# Altium footprint library 2.12-QFP封装.PcbLib: 39 footprints (part 2 of 3)
Each footprint in its own frame and in the unit in brackets; x right, y up, seen from the top. Pads: shape width x height; smd on the part's side, far side on the other; paste and mask are expansions set on the pad; w line width, h text height; cw(c..) or ccw(c..) is an arc to the next point about the centre after c.
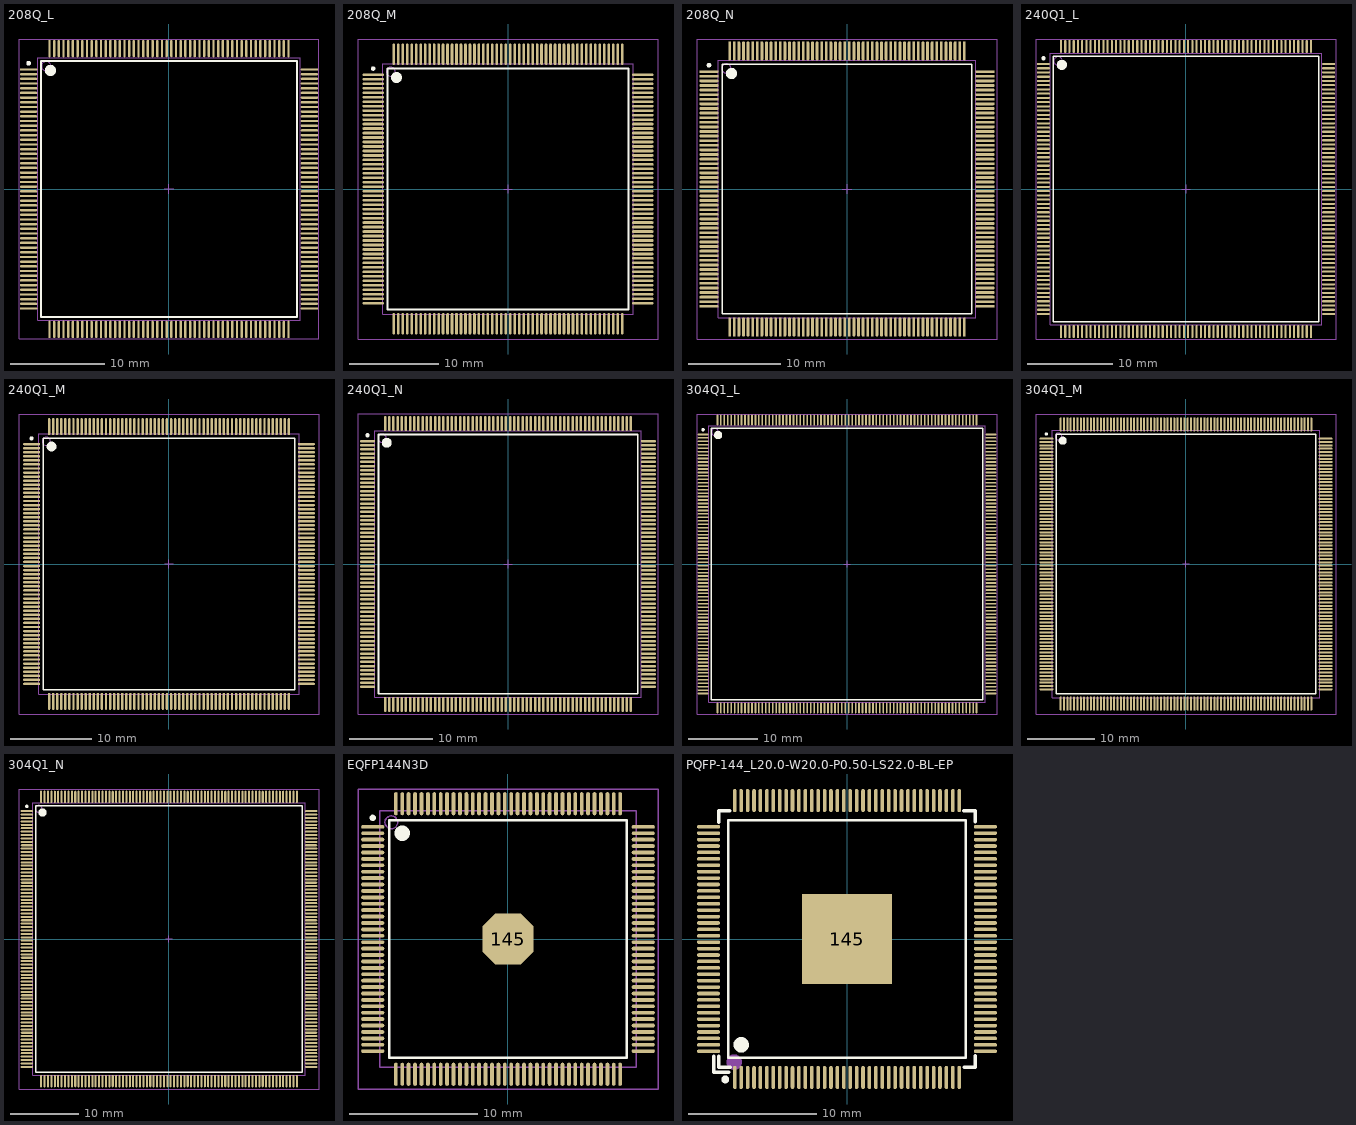
[diagram p1: the footprints below, top view; thin cyan lines are the x and y axes]

## 208Q_L [mm] "208-Pin Plastic Gull Wing Quad Flat Package (PQFP), IPC High Density"
height 3.97
pads (208):
  oval 1.85x0.25 smd: 1(-14.975,12.75) 2(-14.975,12.25) 3(-14.975,11.75) 4(-14.975,11.25) 5(-14.975,10.75) 6(-14.975,10.25) 7(-14.975,9.75) 8(-14.975,9.25) 9(-14.975,8.75) 10(-14.975,8.25) 11(-14.975,7.75) 12(-14.975,7.25) 13(-14.975,6.75) 14(-14.975,6.25) 15(-14.975,5.75) 16(-14.975,5.25) 17(-14.975,4.75) 18(-14.975,4.25) 19(-14.975,3.75) 20(-14.975,3.25) 21(-14.975,2.75) 22(-14.975,2.25) 23(-14.975,1.75) 24(-14.975,1.25) 25(-14.975,0.75) 26(-14.975,0.25) 27(-14.975,-0.25) 28(-14.975,-0.75) 29(-14.975,-1.25) 30(-14.975,-1.75) 31(-14.975,-2.25) 32(-14.975,-2.75) 33(-14.975,-3.25) 34(-14.975,-3.75) 35(-14.975,-4.25) 36(-14.975,-4.75) 37(-14.975,-5.25) 38(-14.975,-5.75) 39(-14.975,-6.25) 40(-14.975,-6.75) 41(-14.975,-7.25) 42(-14.975,-7.75) 43(-14.975,-8.25) 44(-14.975,-8.75) 45(-14.975,-9.25) 46(-14.975,-9.75) 47(-14.975,-10.25) 48(-14.975,-10.75) 49(-14.975,-11.25) 50(-14.975,-11.75) 51(-14.975,-12.25) 52(-14.975,-12.75) 105(14.975,-12.75) 106(14.975,-12.25) 107(14.975,-11.75) 108(14.975,-11.25) 109(14.975,-10.75) 110(14.975,-10.25) 111(14.975,-9.75) 112(14.975,-9.25) 113(14.975,-8.75) 114(14.975,-8.25) 115(14.975,-7.75) 116(14.975,-7.25) 117(14.975,-6.75) 118(14.975,-6.25) 119(14.975,-5.75) 120(14.975,-5.25) 121(14.975,-4.75) 122(14.975,-4.25) 123(14.975,-3.75) 124(14.975,-3.25) 125(14.975,-2.75) 126(14.975,-2.25) 127(14.975,-1.75) 128(14.975,-1.25) 129(14.975,-0.75) 130(14.975,-0.25) 131(14.975,0.25) 132(14.975,0.75) 133(14.975,1.25) 134(14.975,1.75) 135(14.975,2.25) 136(14.975,2.75) 137(14.975,3.25) 138(14.975,3.75) 139(14.975,4.25) 140(14.975,4.75) 141(14.975,5.25) 142(14.975,5.75) 143(14.975,6.25) 144(14.975,6.75) 145(14.975,7.25) 146(14.975,7.75) 147(14.975,8.25) 148(14.975,8.75) 149(14.975,9.25) 150(14.975,9.75) 151(14.975,10.25) 152(14.975,10.75) 153(14.975,11.25) 154(14.975,11.75) 155(14.975,12.25) 156(14.975,12.75)
  oval 0.25x1.85 smd: 53(-12.75,-14.975) 54(-12.25,-14.975) 55(-11.75,-14.975) 56(-11.25,-14.975) 57(-10.75,-14.975) 58(-10.25,-14.975) 59(-9.75,-14.975) 60(-9.25,-14.975) 61(-8.75,-14.975) 62(-8.25,-14.975) 63(-7.75,-14.975) 64(-7.25,-14.975) 65(-6.75,-14.975) 66(-6.25,-14.975) 67(-5.75,-14.975) 68(-5.25,-14.975) 69(-4.75,-14.975) 70(-4.25,-14.975) 71(-3.75,-14.975) 72(-3.25,-14.975) 73(-2.75,-14.975) 74(-2.25,-14.975) 75(-1.75,-14.975) 76(-1.25,-14.975) 77(-0.75,-14.975) 78(-0.25,-14.975) 79(0.25,-14.975) 80(0.75,-14.975) 81(1.25,-14.975) 82(1.75,-14.975) 83(2.25,-14.975) 84(2.75,-14.975) 85(3.25,-14.975) 86(3.75,-14.975) 87(4.25,-14.975) 88(4.75,-14.975) 89(5.25,-14.975) 90(5.75,-14.975) 91(6.25,-14.975) 92(6.75,-14.975) 93(7.25,-14.975) 94(7.75,-14.975) 95(8.25,-14.975) 96(8.75,-14.975) 97(9.25,-14.975) 98(9.75,-14.975) 99(10.25,-14.975) 100(10.75,-14.975) 101(11.25,-14.975) 102(11.75,-14.975) 103(12.25,-14.975) 104(12.75,-14.975) 157(12.75,14.975) 158(12.25,14.975) 159(11.75,14.975) 160(11.25,14.975) 161(10.75,14.975) 162(10.25,14.975) 163(9.75,14.975) 164(9.25,14.975) 165(8.75,14.975) 166(8.25,14.975) 167(7.75,14.975) 168(7.25,14.975) 169(6.75,14.975) 170(6.25,14.975) 171(5.75,14.975) 172(5.25,14.975) 173(4.75,14.975) 174(4.25,14.975) 175(3.75,14.975) 176(3.25,14.975) 177(2.75,14.975) 178(2.25,14.975) 179(1.75,14.975) 180(1.25,14.975) 181(0.75,14.975) 182(0.25,14.975) 183(-0.25,14.975) 184(-0.75,14.975) 185(-1.25,14.975) 186(-1.75,14.975) 187(-2.25,14.975) 188(-2.75,14.975) 189(-3.25,14.975) 190(-3.75,14.975) 191(-4.25,14.975) 192(-4.75,14.975) 193(-5.25,14.975) 194(-5.75,14.975) 195(-6.25,14.975) 196(-6.75,14.975) 197(-7.25,14.975) 198(-7.75,14.975) 199(-8.25,14.975) 200(-8.75,14.975) 201(-9.25,14.975) 202(-9.75,14.975) 203(-10.25,14.975) 204(-10.75,14.975) 205(-11.25,14.975) 206(-11.75,14.975) 207(-12.25,14.975) 208(-12.75,14.975)
Top Overlay:
  circle w0.25: c-14.975,13.425 r0.125
  circle w0.6: c-12.65,12.65 r0.3
  lines w0.2: -13.65,-13.65 -13.65,13.65 13.65,13.65 13.65,-13.65 -13.65,-13.65
Mechanical 13:
  circle w0.1: c-13.1,13.1 r0.5
  lines w0.1: -14,-14 -14,14 14,14 14,-14 -14,-14
Mechanical 15:
  lines w0.1: -0.5,0 0.5,0 ; 0,-0.5 0,0.5 ; -16,-16 -16,16 16,16 16,-16 -16,-16
3D body: height 3.97, standoff 0, extent -14,-14 14,14

## 208Q_M [mm] "208-Pin Plastic Gull Wing Quad Flat Package (PQFP), IPC Low Density"
height 3.97
pads (208):
  oval 2.4x0.3 smd: 1(-15.05,12.75) 2(-15.05,12.25) 3(-15.05,11.75) 4(-15.05,11.25) 5(-15.05,10.75) 6(-15.05,10.25) 7(-15.05,9.75) 8(-15.05,9.25) 9(-15.05,8.75) 10(-15.05,8.25) 11(-15.05,7.75) 12(-15.05,7.25) 13(-15.05,6.75) 14(-15.05,6.25) 15(-15.05,5.75) 16(-15.05,5.25) 17(-15.05,4.75) 18(-15.05,4.25) 19(-15.05,3.75) 20(-15.05,3.25) 21(-15.05,2.75) 22(-15.05,2.25) 23(-15.05,1.75) 24(-15.05,1.25) 25(-15.05,0.75) 26(-15.05,0.25) 27(-15.05,-0.25) 28(-15.05,-0.75) 29(-15.05,-1.25) 30(-15.05,-1.75) 31(-15.05,-2.25) 32(-15.05,-2.75) 33(-15.05,-3.25) 34(-15.05,-3.75) 35(-15.05,-4.25) 36(-15.05,-4.75) 37(-15.05,-5.25) 38(-15.05,-5.75) 39(-15.05,-6.25) 40(-15.05,-6.75) 41(-15.05,-7.25) 42(-15.05,-7.75) 43(-15.05,-8.25) 44(-15.05,-8.75) 45(-15.05,-9.25) 46(-15.05,-9.75) 47(-15.05,-10.25) 48(-15.05,-10.75) 49(-15.05,-11.25) 50(-15.05,-11.75) 51(-15.05,-12.25) 52(-15.05,-12.75) 105(15.05,-12.75) 106(15.05,-12.25) 107(15.05,-11.75) 108(15.05,-11.25) 109(15.05,-10.75) 110(15.05,-10.25) 111(15.05,-9.75) 112(15.05,-9.25) 113(15.05,-8.75) 114(15.05,-8.25) 115(15.05,-7.75) 116(15.05,-7.25) 117(15.05,-6.75) 118(15.05,-6.25) 119(15.05,-5.75) 120(15.05,-5.25) 121(15.05,-4.75) 122(15.05,-4.25) 123(15.05,-3.75) 124(15.05,-3.25) 125(15.05,-2.75) 126(15.05,-2.25) 127(15.05,-1.75) 128(15.05,-1.25) 129(15.05,-0.75) 130(15.05,-0.25) 131(15.05,0.25) 132(15.05,0.75) 133(15.05,1.25) 134(15.05,1.75) 135(15.05,2.25) 136(15.05,2.75) 137(15.05,3.25) 138(15.05,3.75) 139(15.05,4.25) 140(15.05,4.75) 141(15.05,5.25) 142(15.05,5.75) 143(15.05,6.25) 144(15.05,6.75) 145(15.05,7.25) 146(15.05,7.75) 147(15.05,8.25) 148(15.05,8.75) 149(15.05,9.25) 150(15.05,9.75) 151(15.05,10.25) 152(15.05,10.75) 153(15.05,11.25) 154(15.05,11.75) 155(15.05,12.25) 156(15.05,12.75)
  oval 0.3x2.4 smd: 53(-12.75,-15.05) 54(-12.25,-15.05) 55(-11.75,-15.05) 56(-11.25,-15.05) 57(-10.75,-15.05) 58(-10.25,-15.05) 59(-9.75,-15.05) 60(-9.25,-15.05) 61(-8.75,-15.05) 62(-8.25,-15.05) 63(-7.75,-15.05) 64(-7.25,-15.05) 65(-6.75,-15.05) 66(-6.25,-15.05) 67(-5.75,-15.05) 68(-5.25,-15.05) 69(-4.75,-15.05) 70(-4.25,-15.05) 71(-3.75,-15.05) 72(-3.25,-15.05) 73(-2.75,-15.05) 74(-2.25,-15.05) 75(-1.75,-15.05) 76(-1.25,-15.05) 77(-0.75,-15.05) 78(-0.25,-15.05) 79(0.25,-15.05) 80(0.75,-15.05) 81(1.25,-15.05) 82(1.75,-15.05) 83(2.25,-15.05) 84(2.75,-15.05) 85(3.25,-15.05) 86(3.75,-15.05) 87(4.25,-15.05) 88(4.75,-15.05) 89(5.25,-15.05) 90(5.75,-15.05) 91(6.25,-15.05) 92(6.75,-15.05) 93(7.25,-15.05) 94(7.75,-15.05) 95(8.25,-15.05) 96(8.75,-15.05) 97(9.25,-15.05) 98(9.75,-15.05) 99(10.25,-15.05) 100(10.75,-15.05) 101(11.25,-15.05) 102(11.75,-15.05) 103(12.25,-15.05) 104(12.75,-15.05) 157(12.75,15.05) 158(12.25,15.05) 159(11.75,15.05) 160(11.25,15.05) 161(10.75,15.05) 162(10.25,15.05) 163(9.75,15.05) 164(9.25,15.05) 165(8.75,15.05) 166(8.25,15.05) 167(7.75,15.05) 168(7.25,15.05) 169(6.75,15.05) 170(6.25,15.05) 171(5.75,15.05) 172(5.25,15.05) 173(4.75,15.05) 174(4.25,15.05) 175(3.75,15.05) 176(3.25,15.05) 177(2.75,15.05) 178(2.25,15.05) 179(1.75,15.05) 180(1.25,15.05) 181(0.75,15.05) 182(0.25,15.05) 183(-0.25,15.05) 184(-0.75,15.05) 185(-1.25,15.05) 186(-1.75,15.05) 187(-2.25,15.05) 188(-2.75,15.05) 189(-3.25,15.05) 190(-3.75,15.05) 191(-4.25,15.05) 192(-4.75,15.05) 193(-5.25,15.05) 194(-5.75,15.05) 195(-6.25,15.05) 196(-6.75,15.05) 197(-7.25,15.05) 198(-7.75,15.05) 199(-8.25,15.05) 200(-8.75,15.05) 201(-9.25,15.05) 202(-9.75,15.05) 203(-10.25,15.05) 204(-10.75,15.05) 205(-11.25,15.05) 206(-11.75,15.05) 207(-12.25,15.05) 208(-12.75,15.05)
Top Overlay:
  circle w0.6: c-12.45,12.45 r0.3
  circle w0.25: c-15.05,13.45 r0.125
  lines w0.2: -13.45,-13.45 13.45,-13.45 13.45,13.45 -13.45,13.45 -13.45,-13.45
Mechanical 13:
  circle w0.1: c-13.1,13.1 r0.5
  lines w0.1: -14,-14 14,-14 14,14 -14,14 -14,-14
Mechanical 15:
  lines w0.1: -0.5,0 0.5,0 ; 0,-0.5 0,0.5 ; -16.75,-16.75 16.75,-16.75 16.75,16.75 -16.75,16.75 -16.75,-16.75
3D body: height 3.97, standoff 0, extent -14,-14 14,14

## 208Q_N [mm] "208-Pin Plastic Gull Wing Quad Flat Package (PQFP), IPC Medium Density"
height 3.97
pads (208):
  oval 2.1x0.3 smd: 1(-15,12.75) 2(-15,12.25) 3(-15,11.75) 4(-15,11.25) 5(-15,10.75) 6(-15,10.25) 7(-15,9.75) 8(-15,9.25) 9(-15,8.75) 10(-15,8.25) 11(-15,7.75) 12(-15,7.25) 13(-15,6.75) 14(-15,6.25) 15(-15,5.75) 16(-15,5.25) 17(-15,4.75) 18(-15,4.25) 19(-15,3.75) 20(-15,3.25) 21(-15,2.75) 22(-15,2.25) 23(-15,1.75) 24(-15,1.25) 25(-15,0.75) 26(-15,0.25) 27(-15,-0.25) 28(-15,-0.75) 29(-15,-1.25) 30(-15,-1.75) 31(-15,-2.25) 32(-15,-2.75) 33(-15,-3.25) 34(-15,-3.75) 35(-15,-4.25) 36(-15,-4.75) 37(-15,-5.25) 38(-15,-5.75) 39(-15,-6.25) 40(-15,-6.75) 41(-15,-7.25) 42(-15,-7.75) 43(-15,-8.25) 44(-15,-8.75) 45(-15,-9.25) 46(-15,-9.75) 47(-15,-10.25) 48(-15,-10.75) 49(-15,-11.25) 50(-15,-11.75) 51(-15,-12.25) 52(-15,-12.75) 105(15,-12.75) 106(15,-12.25) 107(15,-11.75) 108(15,-11.25) 109(15,-10.75) 110(15,-10.25) 111(15,-9.75) 112(15,-9.25) 113(15,-8.75) 114(15,-8.25) 115(15,-7.75) 116(15,-7.25) 117(15,-6.75) 118(15,-6.25) 119(15,-5.75) 120(15,-5.25) 121(15,-4.75) 122(15,-4.25) 123(15,-3.75) 124(15,-3.25) 125(15,-2.75) 126(15,-2.25) 127(15,-1.75) 128(15,-1.25) 129(15,-0.75) 130(15,-0.25) 131(15,0.25) 132(15,0.75) 133(15,1.25) 134(15,1.75) 135(15,2.25) 136(15,2.75) 137(15,3.25) 138(15,3.75) 139(15,4.25) 140(15,4.75) 141(15,5.25) 142(15,5.75) 143(15,6.25) 144(15,6.75) 145(15,7.25) 146(15,7.75) 147(15,8.25) 148(15,8.75) 149(15,9.25) 150(15,9.75) 151(15,10.25) 152(15,10.75) 153(15,11.25) 154(15,11.75) 155(15,12.25) 156(15,12.75)
  oval 0.3x2.1 smd: 53(-12.75,-15) 54(-12.25,-15) 55(-11.75,-15) 56(-11.25,-15) 57(-10.75,-15) 58(-10.25,-15) 59(-9.75,-15) 60(-9.25,-15) 61(-8.75,-15) 62(-8.25,-15) 63(-7.75,-15) 64(-7.25,-15) 65(-6.75,-15) 66(-6.25,-15) 67(-5.75,-15) 68(-5.25,-15) 69(-4.75,-15) 70(-4.25,-15) 71(-3.75,-15) 72(-3.25,-15) 73(-2.75,-15) 74(-2.25,-15) 75(-1.75,-15) 76(-1.25,-15) 77(-0.75,-15) 78(-0.25,-15) 79(0.25,-15) 80(0.75,-15) 81(1.25,-15) 82(1.75,-15) 83(2.25,-15) 84(2.75,-15) 85(3.25,-15) 86(3.75,-15) 87(4.25,-15) 88(4.75,-15) 89(5.25,-15) 90(5.75,-15) 91(6.25,-15) 92(6.75,-15) 93(7.25,-15) 94(7.75,-15) 95(8.25,-15) 96(8.75,-15) 97(9.25,-15) 98(9.75,-15) 99(10.25,-15) 100(10.75,-15) 101(11.25,-15) 102(11.75,-15) 103(12.25,-15) 104(12.75,-15) 157(12.75,15) 158(12.25,15) 159(11.75,15) 160(11.25,15) 161(10.75,15) 162(10.25,15) 163(9.75,15) 164(9.25,15) 165(8.75,15) 166(8.25,15) 167(7.75,15) 168(7.25,15) 169(6.75,15) 170(6.25,15) 171(5.75,15) 172(5.25,15) 173(4.75,15) 174(4.25,15) 175(3.75,15) 176(3.25,15) 177(2.75,15) 178(2.25,15) 179(1.75,15) 180(1.25,15) 181(0.75,15) 182(0.25,15) 183(-0.25,15) 184(-0.75,15) 185(-1.25,15) 186(-1.75,15) 187(-2.25,15) 188(-2.75,15) 189(-3.25,15) 190(-3.75,15) 191(-4.25,15) 192(-4.75,15) 193(-5.25,15) 194(-5.75,15) 195(-6.25,15) 196(-6.75,15) 197(-7.25,15) 198(-7.75,15) 199(-8.25,15) 200(-8.75,15) 201(-9.25,15) 202(-9.75,15) 203(-10.25,15) 204(-10.75,15) 205(-11.25,15) 206(-11.75,15) 207(-12.25,15) 208(-12.75,15)
Top Overlay:
  circle w0.6: c-12.55,12.55 r0.3
  circle w0.25: c-15,13.45 r0.125
  lines w0.2: -13.55,-13.55 13.55,-13.55 13.55,13.55 -13.55,13.55 -13.55,-13.55
Mechanical 13:
  circle w0.1: c-13.1,13.1 r0.5
  lines w0.1: -14,-14 14,-14 14,14 -14,14 -14,-14
Mechanical 15:
  lines w0.1: -0.5,0 0.5,0 ; 0,-0.5 0,0.5 ; -16.3,-16.3 16.3,-16.3 16.3,16.3 -16.3,16.3 -16.3,-16.3
3D body: height 3.97, standoff 0, extent -14,-14 14,14

## 240Q1_L [mm] "240-Pin Shrink Quad Flat Pack 0.5 mm Pitch, IPC High Density"
height 3.6
pads (240):
  oval 1.55x0.25 smd: 1(-16.825,14.75) 2(-16.825,14.25) 3(-16.825,13.75) 4(-16.825,13.25) 5(-16.825,12.75) 6(-16.825,12.25) 7(-16.825,11.75) 8(-16.825,11.25) 9(-16.825,10.75) 10(-16.825,10.25) 11(-16.825,9.75) 12(-16.825,9.25) 13(-16.825,8.75) 14(-16.825,8.25) 15(-16.825,7.75) 16(-16.825,7.25) 17(-16.825,6.75) 18(-16.825,6.25) 19(-16.825,5.75) 20(-16.825,5.25) 21(-16.825,4.75) 22(-16.825,4.25) 23(-16.825,3.75) 24(-16.825,3.25) 25(-16.825,2.75) 26(-16.825,2.25) 27(-16.825,1.75) 28(-16.825,1.25) 29(-16.825,0.75) 30(-16.825,0.25) 31(-16.825,-0.25) 32(-16.825,-0.75) 33(-16.825,-1.25) 34(-16.825,-1.75) 35(-16.825,-2.25) 36(-16.825,-2.75) 37(-16.825,-3.25) 38(-16.825,-3.75) 39(-16.825,-4.25) 40(-16.825,-4.75) 41(-16.825,-5.25) 42(-16.825,-5.75) 43(-16.825,-6.25) 44(-16.825,-6.75) 45(-16.825,-7.25) 46(-16.825,-7.75) 47(-16.825,-8.25) 48(-16.825,-8.75) 49(-16.825,-9.25) 50(-16.825,-9.75) 51(-16.825,-10.25) 52(-16.825,-10.75) 53(-16.825,-11.25) 54(-16.825,-11.75) 55(-16.825,-12.25) 56(-16.825,-12.75) 57(-16.825,-13.25) 58(-16.825,-13.75) 59(-16.825,-14.25) 60(-16.825,-14.75) 121(16.825,-14.75) 122(16.825,-14.25) 123(16.825,-13.75) 124(16.825,-13.25) 125(16.825,-12.75) 126(16.825,-12.25) 127(16.825,-11.75) 128(16.825,-11.25) 129(16.825,-10.75) 130(16.825,-10.25) 131(16.825,-9.75) 132(16.825,-9.25) 133(16.825,-8.75) 134(16.825,-8.25) 135(16.825,-7.75) 136(16.825,-7.25) 137(16.825,-6.75) 138(16.825,-6.25) 139(16.825,-5.75) 140(16.825,-5.25) 141(16.825,-4.75) 142(16.825,-4.25) 143(16.825,-3.75) 144(16.825,-3.25) 145(16.825,-2.75) 146(16.825,-2.25) 147(16.825,-1.75) 148(16.825,-1.25) 149(16.825,-0.75) 150(16.825,-0.25) 151(16.825,0.25) 152(16.825,0.75) 153(16.825,1.25) 154(16.825,1.75) 155(16.825,2.25) 156(16.825,2.75) 157(16.825,3.25) 158(16.825,3.75) 159(16.825,4.25) 160(16.825,4.75) 161(16.825,5.25) 162(16.825,5.75) 163(16.825,6.25) 164(16.825,6.75) 165(16.825,7.25) 166(16.825,7.75) 167(16.825,8.25) 168(16.825,8.75) 169(16.825,9.25) 170(16.825,9.75) 171(16.825,10.25) 172(16.825,10.75) 173(16.825,11.25) 174(16.825,11.75) 175(16.825,12.25) 176(16.825,12.75) 177(16.825,13.25) 178(16.825,13.75) 179(16.825,14.25) 180(16.825,14.75)
  oval 0.25x1.55 smd: 61(-14.75,-16.825) 62(-14.25,-16.825) 63(-13.75,-16.825) 64(-13.25,-16.825) 65(-12.75,-16.825) 66(-12.25,-16.825) 67(-11.75,-16.825) 68(-11.25,-16.825) 69(-10.75,-16.825) 70(-10.25,-16.825) 71(-9.75,-16.825) 72(-9.25,-16.825) 73(-8.75,-16.825) 74(-8.25,-16.825) 75(-7.75,-16.825) 76(-7.25,-16.825) 77(-6.75,-16.825) 78(-6.25,-16.825) 79(-5.75,-16.825) 80(-5.25,-16.825) 81(-4.75,-16.825) 82(-4.25,-16.825) 83(-3.75,-16.825) 84(-3.25,-16.825) 85(-2.75,-16.825) 86(-2.25,-16.825) 87(-1.75,-16.825) 88(-1.25,-16.825) 89(-0.75,-16.825) 90(-0.25,-16.825) 91(0.25,-16.825) 92(0.75,-16.825) 93(1.25,-16.825) 94(1.75,-16.825) 95(2.25,-16.825) 96(2.75,-16.825) 97(3.25,-16.825) 98(3.75,-16.825) 99(4.25,-16.825) 100(4.75,-16.825) 101(5.25,-16.825) 102(5.75,-16.825) 103(6.25,-16.825) 104(6.75,-16.825) 105(7.25,-16.825) 106(7.75,-16.825) 107(8.25,-16.825) 108(8.75,-16.825) 109(9.25,-16.825) 110(9.75,-16.825) 111(10.25,-16.825) 112(10.75,-16.825) 113(11.25,-16.825) 114(11.75,-16.825) 115(12.25,-16.825) 116(12.75,-16.825) 117(13.25,-16.825) 118(13.75,-16.825) 119(14.25,-16.825) 120(14.75,-16.825) 181(14.75,16.825) 182(14.25,16.825) 183(13.75,16.825) 184(13.25,16.825) 185(12.75,16.825) 186(12.25,16.825) 187(11.75,16.825) 188(11.25,16.825) 189(10.75,16.825) 190(10.25,16.825) 191(9.75,16.825) 192(9.25,16.825) 193(8.75,16.825) 194(8.25,16.825) 195(7.75,16.825) 196(7.25,16.825) 197(6.75,16.825) 198(6.25,16.825) 199(5.75,16.825) 200(5.25,16.825) 201(4.75,16.825) 202(4.25,16.825) 203(3.75,16.825) 204(3.25,16.825) 205(2.75,16.825) 206(2.25,16.825) 207(1.75,16.825) 208(1.25,16.825) 209(0.75,16.825) 210(0.25,16.825) 211(-0.25,16.825) 212(-0.75,16.825) 213(-1.25,16.825) 214(-1.75,16.825) 215(-2.25,16.825) 216(-2.75,16.825) 217(-3.25,16.825) 218(-3.75,16.825) 219(-4.25,16.825) 220(-4.75,16.825) 221(-5.25,16.825) 222(-5.75,16.825) 223(-6.25,16.825) 224(-6.75,16.825) 225(-7.25,16.825) 226(-7.75,16.825) 227(-8.25,16.825) 228(-8.75,16.825) 229(-9.25,16.825) 230(-9.75,16.825) 231(-10.25,16.825) 232(-10.75,16.825) 233(-11.25,16.825) 234(-11.75,16.825) 235(-12.25,16.825) 236(-12.75,16.825) 237(-13.25,16.825) 238(-13.75,16.825) 239(-14.25,16.825) 240(-14.75,16.825)
Top Overlay:
  circle w0.25: c-16.825,15.425 r0.125
  circle w0.6: c-14.65,14.65 r0.3
  lines w0.2: -15.65,-15.65 -15.65,15.65 15.65,15.65 15.65,-15.65 -15.65,-15.65
Mechanical 13:
  circle w0.1: c-15.1,15.1 r0.5
  lines w0.1: -16,-16 -16,16 16,16 16,-16 -16,-16
Mechanical 15:
  lines w0.1: -0.5,0 0.5,0 ; 0,-0.5 0,0.5 ; -17.7,-17.7 -17.7,17.7 17.7,17.7 17.7,-17.7 -17.7,-17.7
3D body: height 3.6, standoff 0, extent -16,-16 16,16

## 240Q1_M [mm] "240-Pin Shrink Quad Flat Pack 0.5 mm Pitch, IPC Low Density"
height 3.6
pads (240):
  oval 2.1x0.3 smd: 1(-16.9,14.75) 2(-16.9,14.25) 3(-16.9,13.75) 4(-16.9,13.25) 5(-16.9,12.75) 6(-16.9,12.25) 7(-16.9,11.75) 8(-16.9,11.25) 9(-16.9,10.75) 10(-16.9,10.25) 11(-16.9,9.75) 12(-16.9,9.25) 13(-16.9,8.75) 14(-16.9,8.25) 15(-16.9,7.75) 16(-16.9,7.25) 17(-16.9,6.75) 18(-16.9,6.25) 19(-16.9,5.75) 20(-16.9,5.25) 21(-16.9,4.75) 22(-16.9,4.25) 23(-16.9,3.75) 24(-16.9,3.25) 25(-16.9,2.75) 26(-16.9,2.25) 27(-16.9,1.75) 28(-16.9,1.25) 29(-16.9,0.75) 30(-16.9,0.25) 31(-16.9,-0.25) 32(-16.9,-0.75) 33(-16.9,-1.25) 34(-16.9,-1.75) 35(-16.9,-2.25) 36(-16.9,-2.75) 37(-16.9,-3.25) 38(-16.9,-3.75) 39(-16.9,-4.25) 40(-16.9,-4.75) 41(-16.9,-5.25) 42(-16.9,-5.75) 43(-16.9,-6.25) 44(-16.9,-6.75) 45(-16.9,-7.25) 46(-16.9,-7.75) 47(-16.9,-8.25) 48(-16.9,-8.75) 49(-16.9,-9.25) 50(-16.9,-9.75) 51(-16.9,-10.25) 52(-16.9,-10.75) 53(-16.9,-11.25) 54(-16.9,-11.75) 55(-16.9,-12.25) 56(-16.9,-12.75) 57(-16.9,-13.25) 58(-16.9,-13.75) 59(-16.9,-14.25) 60(-16.9,-14.75) 121(16.9,-14.75) 122(16.9,-14.25) 123(16.9,-13.75) 124(16.9,-13.25) 125(16.9,-12.75) 126(16.9,-12.25) 127(16.9,-11.75) 128(16.9,-11.25) 129(16.9,-10.75) 130(16.9,-10.25) 131(16.9,-9.75) 132(16.9,-9.25) 133(16.9,-8.75) 134(16.9,-8.25) 135(16.9,-7.75) 136(16.9,-7.25) 137(16.9,-6.75) 138(16.9,-6.25) 139(16.9,-5.75) 140(16.9,-5.25) 141(16.9,-4.75) 142(16.9,-4.25) 143(16.9,-3.75) 144(16.9,-3.25) 145(16.9,-2.75) 146(16.9,-2.25) 147(16.9,-1.75) 148(16.9,-1.25) 149(16.9,-0.75) 150(16.9,-0.25) 151(16.9,0.25) 152(16.9,0.75) 153(16.9,1.25) 154(16.9,1.75) 155(16.9,2.25) 156(16.9,2.75) 157(16.9,3.25) 158(16.9,3.75) 159(16.9,4.25) 160(16.9,4.75) 161(16.9,5.25) 162(16.9,5.75) 163(16.9,6.25) 164(16.9,6.75) 165(16.9,7.25) 166(16.9,7.75) 167(16.9,8.25) 168(16.9,8.75) 169(16.9,9.25) 170(16.9,9.75) 171(16.9,10.25) 172(16.9,10.75) 173(16.9,11.25) 174(16.9,11.75) 175(16.9,12.25) 176(16.9,12.75) 177(16.9,13.25) 178(16.9,13.75) 179(16.9,14.25) 180(16.9,14.75)
  oval 0.3x2.1 smd: 61(-14.75,-16.9) 62(-14.25,-16.9) 63(-13.75,-16.9) 64(-13.25,-16.9) 65(-12.75,-16.9) 66(-12.25,-16.9) 67(-11.75,-16.9) 68(-11.25,-16.9) 69(-10.75,-16.9) 70(-10.25,-16.9) 71(-9.75,-16.9) 72(-9.25,-16.9) 73(-8.75,-16.9) 74(-8.25,-16.9) 75(-7.75,-16.9) 76(-7.25,-16.9) 77(-6.75,-16.9) 78(-6.25,-16.9) 79(-5.75,-16.9) 80(-5.25,-16.9) 81(-4.75,-16.9) 82(-4.25,-16.9) 83(-3.75,-16.9) 84(-3.25,-16.9) 85(-2.75,-16.9) 86(-2.25,-16.9) 87(-1.75,-16.9) 88(-1.25,-16.9) 89(-0.75,-16.9) 90(-0.25,-16.9) 91(0.25,-16.9) 92(0.75,-16.9) 93(1.25,-16.9) 94(1.75,-16.9) 95(2.25,-16.9) 96(2.75,-16.9) 97(3.25,-16.9) 98(3.75,-16.9) 99(4.25,-16.9) 100(4.75,-16.9) 101(5.25,-16.9) 102(5.75,-16.9) 103(6.25,-16.9) 104(6.75,-16.9) 105(7.25,-16.9) 106(7.75,-16.9) 107(8.25,-16.9) 108(8.75,-16.9) 109(9.25,-16.9) 110(9.75,-16.9) 111(10.25,-16.9) 112(10.75,-16.9) 113(11.25,-16.9) 114(11.75,-16.9) 115(12.25,-16.9) 116(12.75,-16.9) 117(13.25,-16.9) 118(13.75,-16.9) 119(14.25,-16.9) 120(14.75,-16.9) 181(14.75,16.9) 182(14.25,16.9) 183(13.75,16.9) 184(13.25,16.9) 185(12.75,16.9) 186(12.25,16.9) 187(11.75,16.9) 188(11.25,16.9) 189(10.75,16.9) 190(10.25,16.9) 191(9.75,16.9) 192(9.25,16.9) 193(8.75,16.9) 194(8.25,16.9) 195(7.75,16.9) 196(7.25,16.9) 197(6.75,16.9) 198(6.25,16.9) 199(5.75,16.9) 200(5.25,16.9) 201(4.75,16.9) 202(4.25,16.9) 203(3.75,16.9) 204(3.25,16.9) 205(2.75,16.9) 206(2.25,16.9) 207(1.75,16.9) 208(1.25,16.9) 209(0.75,16.9) 210(0.25,16.9) 211(-0.25,16.9) 212(-0.75,16.9) 213(-1.25,16.9) 214(-1.75,16.9) 215(-2.25,16.9) 216(-2.75,16.9) 217(-3.25,16.9) 218(-3.75,16.9) 219(-4.25,16.9) 220(-4.75,16.9) 221(-5.25,16.9) 222(-5.75,16.9) 223(-6.25,16.9) 224(-6.75,16.9) 225(-7.25,16.9) 226(-7.75,16.9) 227(-8.25,16.9) 228(-8.75,16.9) 229(-9.25,16.9) 230(-9.75,16.9) 231(-10.25,16.9) 232(-10.75,16.9) 233(-11.25,16.9) 234(-11.75,16.9) 235(-12.25,16.9) 236(-12.75,16.9) 237(-13.25,16.9) 238(-13.75,16.9) 239(-14.25,16.9) 240(-14.75,16.9)
Top Overlay:
  circle w0.25: c-16.9,15.45 r0.125
  circle w0.6: c-14.45,14.45 r0.3
  lines w0.2: -15.45,-15.45 -15.45,15.45 15.45,15.45 15.45,-15.45 -15.45,-15.45
Mechanical 13:
  circle w0.1: c-15.1,15.1 r0.5
  lines w0.1: -16,-16 -16,16 16,16 16,-16 -16,-16
Mechanical 15:
  lines w0.1: -0.5,0 0.5,0 ; 0,-0.5 0,0.5 ; -18.45,-18.45 -18.45,18.45 18.45,18.45 18.45,-18.45 -18.45,-18.45
3D body: height 3.6, standoff 0, extent -16,-16 16,16

## 240Q1_N [mm] "240-Pin Shrink Quad Flat Pack 0.5 mm Pitch, IPC Medium Density"
height 3.6
pads (240):
  oval 1.8x0.3 smd: 1(-16.85,14.75) 2(-16.85,14.25) 3(-16.85,13.75) 4(-16.85,13.25) 5(-16.85,12.75) 6(-16.85,12.25) 7(-16.85,11.75) 8(-16.85,11.25) 9(-16.85,10.75) 10(-16.85,10.25) 11(-16.85,9.75) 12(-16.85,9.25) 13(-16.85,8.75) 14(-16.85,8.25) 15(-16.85,7.75) 16(-16.85,7.25) 17(-16.85,6.75) 18(-16.85,6.25) 19(-16.85,5.75) 20(-16.85,5.25) 21(-16.85,4.75) 22(-16.85,4.25) 23(-16.85,3.75) 24(-16.85,3.25) 25(-16.85,2.75) 26(-16.85,2.25) 27(-16.85,1.75) 28(-16.85,1.25) 29(-16.85,0.75) 30(-16.85,0.25) 31(-16.85,-0.25) 32(-16.85,-0.75) 33(-16.85,-1.25) 34(-16.85,-1.75) 35(-16.85,-2.25) 36(-16.85,-2.75) 37(-16.85,-3.25) 38(-16.85,-3.75) 39(-16.85,-4.25) 40(-16.85,-4.75) 41(-16.85,-5.25) 42(-16.85,-5.75) 43(-16.85,-6.25) 44(-16.85,-6.75) 45(-16.85,-7.25) 46(-16.85,-7.75) 47(-16.85,-8.25) 48(-16.85,-8.75) 49(-16.85,-9.25) 50(-16.85,-9.75) 51(-16.85,-10.25) 52(-16.85,-10.75) 53(-16.85,-11.25) 54(-16.85,-11.75) 55(-16.85,-12.25) 56(-16.85,-12.75) 57(-16.85,-13.25) 58(-16.85,-13.75) 59(-16.85,-14.25) 60(-16.85,-14.75) 121(16.85,-14.75) 122(16.85,-14.25) 123(16.85,-13.75) 124(16.85,-13.25) 125(16.85,-12.75) 126(16.85,-12.25) 127(16.85,-11.75) 128(16.85,-11.25) 129(16.85,-10.75) 130(16.85,-10.25) 131(16.85,-9.75) 132(16.85,-9.25) 133(16.85,-8.75) 134(16.85,-8.25) 135(16.85,-7.75) 136(16.85,-7.25) 137(16.85,-6.75) 138(16.85,-6.25) 139(16.85,-5.75) 140(16.85,-5.25) 141(16.85,-4.75) 142(16.85,-4.25) 143(16.85,-3.75) 144(16.85,-3.25) 145(16.85,-2.75) 146(16.85,-2.25) 147(16.85,-1.75) 148(16.85,-1.25) 149(16.85,-0.75) 150(16.85,-0.25) 151(16.85,0.25) 152(16.85,0.75) 153(16.85,1.25) 154(16.85,1.75) 155(16.85,2.25) 156(16.85,2.75) 157(16.85,3.25) 158(16.85,3.75) 159(16.85,4.25) 160(16.85,4.75) 161(16.85,5.25) 162(16.85,5.75) 163(16.85,6.25) 164(16.85,6.75) 165(16.85,7.25) 166(16.85,7.75) 167(16.85,8.25) 168(16.85,8.75) 169(16.85,9.25) 170(16.85,9.75) 171(16.85,10.25) 172(16.85,10.75) 173(16.85,11.25) 174(16.85,11.75) 175(16.85,12.25) 176(16.85,12.75) 177(16.85,13.25) 178(16.85,13.75) 179(16.85,14.25) 180(16.85,14.75)
  oval 0.3x1.8 smd: 61(-14.75,-16.85) 62(-14.25,-16.85) 63(-13.75,-16.85) 64(-13.25,-16.85) 65(-12.75,-16.85) 66(-12.25,-16.85) 67(-11.75,-16.85) 68(-11.25,-16.85) 69(-10.75,-16.85) 70(-10.25,-16.85) 71(-9.75,-16.85) 72(-9.25,-16.85) 73(-8.75,-16.85) 74(-8.25,-16.85) 75(-7.75,-16.85) 76(-7.25,-16.85) 77(-6.75,-16.85) 78(-6.25,-16.85) 79(-5.75,-16.85) 80(-5.25,-16.85) 81(-4.75,-16.85) 82(-4.25,-16.85) 83(-3.75,-16.85) 84(-3.25,-16.85) 85(-2.75,-16.85) 86(-2.25,-16.85) 87(-1.75,-16.85) 88(-1.25,-16.85) 89(-0.75,-16.85) 90(-0.25,-16.85) 91(0.25,-16.85) 92(0.75,-16.85) 93(1.25,-16.85) 94(1.75,-16.85) 95(2.25,-16.85) 96(2.75,-16.85) 97(3.25,-16.85) 98(3.75,-16.85) 99(4.25,-16.85) 100(4.75,-16.85) 101(5.25,-16.85) 102(5.75,-16.85) 103(6.25,-16.85) 104(6.75,-16.85) 105(7.25,-16.85) 106(7.75,-16.85) 107(8.25,-16.85) 108(8.75,-16.85) 109(9.25,-16.85) 110(9.75,-16.85) 111(10.25,-16.85) 112(10.75,-16.85) 113(11.25,-16.85) 114(11.75,-16.85) 115(12.25,-16.85) 116(12.75,-16.85) 117(13.25,-16.85) 118(13.75,-16.85) 119(14.25,-16.85) 120(14.75,-16.85) 181(14.75,16.85) 182(14.25,16.85) 183(13.75,16.85) 184(13.25,16.85) 185(12.75,16.85) 186(12.25,16.85) 187(11.75,16.85) 188(11.25,16.85) 189(10.75,16.85) 190(10.25,16.85) 191(9.75,16.85) 192(9.25,16.85) 193(8.75,16.85) 194(8.25,16.85) 195(7.75,16.85) 196(7.25,16.85) 197(6.75,16.85) 198(6.25,16.85) 199(5.75,16.85) 200(5.25,16.85) 201(4.75,16.85) 202(4.25,16.85) 203(3.75,16.85) 204(3.25,16.85) 205(2.75,16.85) 206(2.25,16.85) 207(1.75,16.85) 208(1.25,16.85) 209(0.75,16.85) 210(0.25,16.85) 211(-0.25,16.85) 212(-0.75,16.85) 213(-1.25,16.85) 214(-1.75,16.85) 215(-2.25,16.85) 216(-2.75,16.85) 217(-3.25,16.85) 218(-3.75,16.85) 219(-4.25,16.85) 220(-4.75,16.85) 221(-5.25,16.85) 222(-5.75,16.85) 223(-6.25,16.85) 224(-6.75,16.85) 225(-7.25,16.85) 226(-7.75,16.85) 227(-8.25,16.85) 228(-8.75,16.85) 229(-9.25,16.85) 230(-9.75,16.85) 231(-10.25,16.85) 232(-10.75,16.85) 233(-11.25,16.85) 234(-11.75,16.85) 235(-12.25,16.85) 236(-12.75,16.85) 237(-13.25,16.85) 238(-13.75,16.85) 239(-14.25,16.85) 240(-14.75,16.85)
Top Overlay:
  circle w0.6: c-14.55,14.55 r0.3
  circle w0.25: c-16.85,15.45 r0.125
  lines w0.2: -15.55,-15.55 15.55,-15.55 15.55,15.55 -15.55,15.55 -15.55,-15.55
Mechanical 13:
  circle w0.1: c-15.1,15.1 r0.5
  lines w0.1: -16,-16 16,-16 16,16 -16,16 -16,-16
Mechanical 15:
  lines w0.1: -0.5,0 0.5,0 ; 0,-0.5 0,0.5 ; -18,-18 18,-18 18,18 -18,18 -18,-18
3D body: height 3.6, standoff 0, extent -16,-16 16,16

## 304Q1_L [mm] "304-Pin Shrink Quad Flat Pack 0.5 mm Pitch, IPC High Density"
height 4.05
pads (304):
  oval 1.55x0.25 smd: 1(-20.825,18.75) 2(-20.825,18.25) 3(-20.825,17.75) 4(-20.825,17.25) 5(-20.825,16.75) 6(-20.825,16.25) 7(-20.825,15.75) 8(-20.825,15.25) 9(-20.825,14.75) 10(-20.825,14.25) 11(-20.825,13.75) 12(-20.825,13.25) 13(-20.825,12.75) 14(-20.825,12.25) 15(-20.825,11.75) 16(-20.825,11.25) 17(-20.825,10.75) 18(-20.825,10.25) 19(-20.825,9.75) 20(-20.825,9.25) 21(-20.825,8.75) 22(-20.825,8.25) 23(-20.825,7.75) 24(-20.825,7.25) 25(-20.825,6.75) 26(-20.825,6.25) 27(-20.825,5.75) 28(-20.825,5.25) 29(-20.825,4.75) 30(-20.825,4.25) 31(-20.825,3.75) 32(-20.825,3.25) 33(-20.825,2.75) 34(-20.825,2.25) 35(-20.825,1.75) 36(-20.825,1.25) 37(-20.825,0.75) 38(-20.825,0.25) 39(-20.825,-0.25) 40(-20.825,-0.75) 41(-20.825,-1.25) 42(-20.825,-1.75) 43(-20.825,-2.25) 44(-20.825,-2.75) 45(-20.825,-3.25) 46(-20.825,-3.75) 47(-20.825,-4.25) 48(-20.825,-4.75) 49(-20.825,-5.25) 50(-20.825,-5.75) 51(-20.825,-6.25) 52(-20.825,-6.75) 53(-20.825,-7.25) 54(-20.825,-7.75) 55(-20.825,-8.25) 56(-20.825,-8.75) 57(-20.825,-9.25) 58(-20.825,-9.75) 59(-20.825,-10.25) 60(-20.825,-10.75) 61(-20.825,-11.25) 62(-20.825,-11.75) 63(-20.825,-12.25) 64(-20.825,-12.75) 65(-20.825,-13.25) 66(-20.825,-13.75) 67(-20.825,-14.25) 68(-20.825,-14.75) 69(-20.825,-15.25) 70(-20.825,-15.75) 71(-20.825,-16.25) 72(-20.825,-16.75) 73(-20.825,-17.25) 74(-20.825,-17.75) 75(-20.825,-18.25) 76(-20.825,-18.75) 153(20.825,-18.75) 154(20.825,-18.25) 155(20.825,-17.75) 156(20.825,-17.25) 157(20.825,-16.75) 158(20.825,-16.25) 159(20.825,-15.75) 160(20.825,-15.25) 161(20.825,-14.75) 162(20.825,-14.25) 163(20.825,-13.75) 164(20.825,-13.25) 165(20.825,-12.75) 166(20.825,-12.25) 167(20.825,-11.75) 168(20.825,-11.25) 169(20.825,-10.75) 170(20.825,-10.25) 171(20.825,-9.75) 172(20.825,-9.25) 173(20.825,-8.75) 174(20.825,-8.25) 175(20.825,-7.75) 176(20.825,-7.25) 177(20.825,-6.75) 178(20.825,-6.25) 179(20.825,-5.75) 180(20.825,-5.25) 181(20.825,-4.75) 182(20.825,-4.25) 183(20.825,-3.75) 184(20.825,-3.25) 185(20.825,-2.75) 186(20.825,-2.25) 187(20.825,-1.75) 188(20.825,-1.25) 189(20.825,-0.75) 190(20.825,-0.25) 191(20.825,0.25) 192(20.825,0.75) 193(20.825,1.25) 194(20.825,1.75) 195(20.825,2.25) 196(20.825,2.75) 197(20.825,3.25) 198(20.825,3.75) 199(20.825,4.25) 200(20.825,4.75) 201(20.825,5.25) 202(20.825,5.75) 203(20.825,6.25) 204(20.825,6.75) 205(20.825,7.25) 206(20.825,7.75) 207(20.825,8.25) 208(20.825,8.75) 209(20.825,9.25) 210(20.825,9.75) 211(20.825,10.25) 212(20.825,10.75) 213(20.825,11.25) 214(20.825,11.75) 215(20.825,12.25) 216(20.825,12.75) 217(20.825,13.25) 218(20.825,13.75) 219(20.825,14.25) 220(20.825,14.75) 221(20.825,15.25) 222(20.825,15.75) 223(20.825,16.25) 224(20.825,16.75) 225(20.825,17.25) 226(20.825,17.75) 227(20.825,18.25) 228(20.825,18.75)
  oval 0.25x1.55 smd: 77(-18.75,-20.825) 78(-18.25,-20.825) 79(-17.75,-20.825) 80(-17.25,-20.825) 81(-16.75,-20.825) 82(-16.25,-20.825) 83(-15.75,-20.825) 84(-15.25,-20.825) 85(-14.75,-20.825) 86(-14.25,-20.825) 87(-13.75,-20.825) 88(-13.25,-20.825) 89(-12.75,-20.825) 90(-12.25,-20.825) 91(-11.75,-20.825) 92(-11.25,-20.825) 93(-10.75,-20.825) 94(-10.25,-20.825) 95(-9.75,-20.825) 96(-9.25,-20.825) 97(-8.75,-20.825) 98(-8.25,-20.825) 99(-7.75,-20.825) 100(-7.25,-20.825) 101(-6.75,-20.825) 102(-6.25,-20.825) 103(-5.75,-20.825) 104(-5.25,-20.825) 105(-4.75,-20.825) 106(-4.25,-20.825) 107(-3.75,-20.825) 108(-3.25,-20.825) 109(-2.75,-20.825) 110(-2.25,-20.825) 111(-1.75,-20.825) 112(-1.25,-20.825) 113(-0.75,-20.825) 114(-0.25,-20.825) 115(0.25,-20.825) 116(0.75,-20.825) 117(1.25,-20.825) 118(1.75,-20.825) 119(2.25,-20.825) 120(2.75,-20.825) 121(3.25,-20.825) 122(3.75,-20.825) 123(4.25,-20.825) 124(4.75,-20.825) 125(5.25,-20.825) 126(5.75,-20.825) 127(6.25,-20.825) 128(6.75,-20.825) 129(7.25,-20.825) 130(7.75,-20.825) 131(8.25,-20.825) 132(8.75,-20.825) 133(9.25,-20.825) 134(9.75,-20.825) 135(10.25,-20.825) 136(10.75,-20.825) 137(11.25,-20.825) 138(11.75,-20.825) 139(12.25,-20.825) 140(12.75,-20.825) 141(13.25,-20.825) 142(13.75,-20.825) 143(14.25,-20.825) 144(14.75,-20.825) 145(15.25,-20.825) 146(15.75,-20.825) 147(16.25,-20.825) 148(16.75,-20.825) 149(17.25,-20.825) 150(17.75,-20.825) 151(18.25,-20.825) 152(18.75,-20.825) 229(18.75,20.825) 230(18.25,20.825) 231(17.75,20.825) 232(17.25,20.825) 233(16.75,20.825) 234(16.25,20.825) 235(15.75,20.825) 236(15.25,20.825) 237(14.75,20.825) 238(14.25,20.825) 239(13.75,20.825) 240(13.25,20.825) 241(12.75,20.825) 242(12.25,20.825) 243(11.75,20.825) 244(11.25,20.825) 245(10.75,20.825) 246(10.25,20.825) 247(9.75,20.825) 248(9.25,20.825) 249(8.75,20.825) 250(8.25,20.825) 251(7.75,20.825) 252(7.25,20.825) 253(6.75,20.825) 254(6.25,20.825) 255(5.75,20.825) 256(5.25,20.825) 257(4.75,20.825) 258(4.25,20.825) 259(3.75,20.825) 260(3.25,20.825) 261(2.75,20.825) 262(2.25,20.825) 263(1.75,20.825) 264(1.25,20.825) 265(0.75,20.825) 266(0.25,20.825) 267(-0.25,20.825) 268(-0.75,20.825) 269(-1.25,20.825) 270(-1.75,20.825) 271(-2.25,20.825) 272(-2.75,20.825) 273(-3.25,20.825) 274(-3.75,20.825) 275(-4.25,20.825) 276(-4.75,20.825) 277(-5.25,20.825) 278(-5.75,20.825) 279(-6.25,20.825) 280(-6.75,20.825) 281(-7.25,20.825) 282(-7.75,20.825) 283(-8.25,20.825) 284(-8.75,20.825) 285(-9.25,20.825) 286(-9.75,20.825) 287(-10.25,20.825) 288(-10.75,20.825) 289(-11.25,20.825) 290(-11.75,20.825) 291(-12.25,20.825) 292(-12.75,20.825) 293(-13.25,20.825) 294(-13.75,20.825) 295(-14.25,20.825) 296(-14.75,20.825) 297(-15.25,20.825) 298(-15.75,20.825) 299(-16.25,20.825) 300(-16.75,20.825) 301(-17.25,20.825) 302(-17.75,20.825) 303(-18.25,20.825) 304(-18.75,20.825)
Top Overlay:
  circle w0.25: c-20.825,19.425 r0.125
  circle w0.6: c-18.65,18.65 r0.3
  lines w0.2: -19.65,-19.65 -19.65,19.65 19.65,19.65 19.65,-19.65 -19.65,-19.65
Mechanical 13:
  circle w0.1: c-19.1,19.1 r0.5
  lines w0.1: -20,-20 -20,20 20,20 20,-20 -20,-20
Mechanical 15:
  lines w0.1: -0.5,0 0.5,0 ; 0,-0.5 0,0.5 ; -21.7,-21.7 -21.7,21.7 21.7,21.7 21.7,-21.7 -21.7,-21.7
3D body: height 4.05, standoff 0, extent -20,-20 20,20

## 304Q1_M [mm] "304-Pin Shrink Quad Flat Pack 0.5 mm Pitch, IPC Low Density"
height 4.05
pads (304):
  oval 2.1x0.3 smd: 1(-20.9,18.75) 2(-20.9,18.25) 3(-20.9,17.75) 4(-20.9,17.25) 5(-20.9,16.75) 6(-20.9,16.25) 7(-20.9,15.75) 8(-20.9,15.25) 9(-20.9,14.75) 10(-20.9,14.25) 11(-20.9,13.75) 12(-20.9,13.25) 13(-20.9,12.75) 14(-20.9,12.25) 15(-20.9,11.75) 16(-20.9,11.25) 17(-20.9,10.75) 18(-20.9,10.25) 19(-20.9,9.75) 20(-20.9,9.25) 21(-20.9,8.75) 22(-20.9,8.25) 23(-20.9,7.75) 24(-20.9,7.25) 25(-20.9,6.75) 26(-20.9,6.25) 27(-20.9,5.75) 28(-20.9,5.25) 29(-20.9,4.75) 30(-20.9,4.25) 31(-20.9,3.75) 32(-20.9,3.25) 33(-20.9,2.75) 34(-20.9,2.25) 35(-20.9,1.75) 36(-20.9,1.25) 37(-20.9,0.75) 38(-20.9,0.25) 39(-20.9,-0.25) 40(-20.9,-0.75) 41(-20.9,-1.25) 42(-20.9,-1.75) 43(-20.9,-2.25) 44(-20.9,-2.75) 45(-20.9,-3.25) 46(-20.9,-3.75) 47(-20.9,-4.25) 48(-20.9,-4.75) 49(-20.9,-5.25) 50(-20.9,-5.75) 51(-20.9,-6.25) 52(-20.9,-6.75) 53(-20.9,-7.25) 54(-20.9,-7.75) 55(-20.9,-8.25) 56(-20.9,-8.75) 57(-20.9,-9.25) 58(-20.9,-9.75) 59(-20.9,-10.25) 60(-20.9,-10.75) 61(-20.9,-11.25) 62(-20.9,-11.75) 63(-20.9,-12.25) 64(-20.9,-12.75) 65(-20.9,-13.25) 66(-20.9,-13.75) 67(-20.9,-14.25) 68(-20.9,-14.75) 69(-20.9,-15.25) 70(-20.9,-15.75) 71(-20.9,-16.25) 72(-20.9,-16.75) 73(-20.9,-17.25) 74(-20.9,-17.75) 75(-20.9,-18.25) 76(-20.9,-18.75) 153(20.9,-18.75) 154(20.9,-18.25) 155(20.9,-17.75) 156(20.9,-17.25) 157(20.9,-16.75) 158(20.9,-16.25) 159(20.9,-15.75) 160(20.9,-15.25) 161(20.9,-14.75) 162(20.9,-14.25) 163(20.9,-13.75) 164(20.9,-13.25) 165(20.9,-12.75) 166(20.9,-12.25) 167(20.9,-11.75) 168(20.9,-11.25) 169(20.9,-10.75) 170(20.9,-10.25) 171(20.9,-9.75) 172(20.9,-9.25) 173(20.9,-8.75) 174(20.9,-8.25) 175(20.9,-7.75) 176(20.9,-7.25) 177(20.9,-6.75) 178(20.9,-6.25) 179(20.9,-5.75) 180(20.9,-5.25) 181(20.9,-4.75) 182(20.9,-4.25) 183(20.9,-3.75) 184(20.9,-3.25) 185(20.9,-2.75) 186(20.9,-2.25) 187(20.9,-1.75) 188(20.9,-1.25) 189(20.9,-0.75) 190(20.9,-0.25) 191(20.9,0.25) 192(20.9,0.75) 193(20.9,1.25) 194(20.9,1.75) 195(20.9,2.25) 196(20.9,2.75) 197(20.9,3.25) 198(20.9,3.75) 199(20.9,4.25) 200(20.9,4.75) 201(20.9,5.25) 202(20.9,5.75) 203(20.9,6.25) 204(20.9,6.75) 205(20.9,7.25) 206(20.9,7.75) 207(20.9,8.25) 208(20.9,8.75) 209(20.9,9.25) 210(20.9,9.75) 211(20.9,10.25) 212(20.9,10.75) 213(20.9,11.25) 214(20.9,11.75) 215(20.9,12.25) 216(20.9,12.75) 217(20.9,13.25) 218(20.9,13.75) 219(20.9,14.25) 220(20.9,14.75) 221(20.9,15.25) 222(20.9,15.75) 223(20.9,16.25) 224(20.9,16.75) 225(20.9,17.25) 226(20.9,17.75) 227(20.9,18.25) 228(20.9,18.75)
  oval 0.3x2.1 smd: 77(-18.75,-20.9) 78(-18.25,-20.9) 79(-17.75,-20.9) 80(-17.25,-20.9) 81(-16.75,-20.9) 82(-16.25,-20.9) 83(-15.75,-20.9) 84(-15.25,-20.9) 85(-14.75,-20.9) 86(-14.25,-20.9) 87(-13.75,-20.9) 88(-13.25,-20.9) 89(-12.75,-20.9) 90(-12.25,-20.9) 91(-11.75,-20.9) 92(-11.25,-20.9) 93(-10.75,-20.9) 94(-10.25,-20.9) 95(-9.75,-20.9) 96(-9.25,-20.9) 97(-8.75,-20.9) 98(-8.25,-20.9) 99(-7.75,-20.9) 100(-7.25,-20.9) 101(-6.75,-20.9) 102(-6.25,-20.9) 103(-5.75,-20.9) 104(-5.25,-20.9) 105(-4.75,-20.9) 106(-4.25,-20.9) 107(-3.75,-20.9) 108(-3.25,-20.9) 109(-2.75,-20.9) 110(-2.25,-20.9) 111(-1.75,-20.9) 112(-1.25,-20.9) 113(-0.75,-20.9) 114(-0.25,-20.9) 115(0.25,-20.9) 116(0.75,-20.9) 117(1.25,-20.9) 118(1.75,-20.9) 119(2.25,-20.9) 120(2.75,-20.9) 121(3.25,-20.9) 122(3.75,-20.9) 123(4.25,-20.9) 124(4.75,-20.9) 125(5.25,-20.9) 126(5.75,-20.9) 127(6.25,-20.9) 128(6.75,-20.9) 129(7.25,-20.9) 130(7.75,-20.9) 131(8.25,-20.9) 132(8.75,-20.9) 133(9.25,-20.9) 134(9.75,-20.9) 135(10.25,-20.9) 136(10.75,-20.9) 137(11.25,-20.9) 138(11.75,-20.9) 139(12.25,-20.9) 140(12.75,-20.9) 141(13.25,-20.9) 142(13.75,-20.9) 143(14.25,-20.9) 144(14.75,-20.9) 145(15.25,-20.9) 146(15.75,-20.9) 147(16.25,-20.9) 148(16.75,-20.9) 149(17.25,-20.9) 150(17.75,-20.9) 151(18.25,-20.9) 152(18.75,-20.9) 229(18.75,20.9) 230(18.25,20.9) 231(17.75,20.9) 232(17.25,20.9) 233(16.75,20.9) 234(16.25,20.9) 235(15.75,20.9) 236(15.25,20.9) 237(14.75,20.9) 238(14.25,20.9) 239(13.75,20.9) 240(13.25,20.9) 241(12.75,20.9) 242(12.25,20.9) 243(11.75,20.9) 244(11.25,20.9) 245(10.75,20.9) 246(10.25,20.9) 247(9.75,20.9) 248(9.25,20.9) 249(8.75,20.9) 250(8.25,20.9) 251(7.75,20.9) 252(7.25,20.9) 253(6.75,20.9) 254(6.25,20.9) 255(5.75,20.9) 256(5.25,20.9) 257(4.75,20.9) 258(4.25,20.9) 259(3.75,20.9) 260(3.25,20.9) 261(2.75,20.9) 262(2.25,20.9) 263(1.75,20.9) 264(1.25,20.9) 265(0.75,20.9) 266(0.25,20.9) 267(-0.25,20.9) 268(-0.75,20.9) 269(-1.25,20.9) 270(-1.75,20.9) 271(-2.25,20.9) 272(-2.75,20.9) 273(-3.25,20.9) 274(-3.75,20.9) 275(-4.25,20.9) 276(-4.75,20.9) 277(-5.25,20.9) 278(-5.75,20.9) 279(-6.25,20.9) 280(-6.75,20.9) 281(-7.25,20.9) 282(-7.75,20.9) 283(-8.25,20.9) 284(-8.75,20.9) 285(-9.25,20.9) 286(-9.75,20.9) 287(-10.25,20.9) 288(-10.75,20.9) 289(-11.25,20.9) 290(-11.75,20.9) 291(-12.25,20.9) 292(-12.75,20.9) 293(-13.25,20.9) 294(-13.75,20.9) 295(-14.25,20.9) 296(-14.75,20.9) 297(-15.25,20.9) 298(-15.75,20.9) 299(-16.25,20.9) 300(-16.75,20.9) 301(-17.25,20.9) 302(-17.75,20.9) 303(-18.25,20.9) 304(-18.75,20.9)
Top Overlay:
  circle w0.25: c-20.9,19.45 r0.125
  circle w0.6: c-18.45,18.45 r0.3
  lines w0.2: -19.45,-19.45 -19.45,19.45 19.45,19.45 19.45,-19.45 -19.45,-19.45
Mechanical 13:
  circle w0.1: c-19.1,19.1 r0.5
  lines w0.1: -20,-20 -20,20 20,20 20,-20 -20,-20
Mechanical 15:
  lines w0.1: -0.5,0 0.5,0 ; 0,-0.5 0,0.5 ; -22.45,-22.45 -22.45,22.45 22.45,22.45 22.45,-22.45 -22.45,-22.45
3D body: height 4.05, standoff 0, extent -20,-20 20,20

## 304Q1_N [mm] "304-Pin Shrink Quad Flat Pack 0.5 mm Pitch, IPC Medium Density"
height 4.05
pads (304):
  oval 1.8x0.3 smd: 1(-20.85,18.75) 2(-20.85,18.25) 3(-20.85,17.75) 4(-20.85,17.25) 5(-20.85,16.75) 6(-20.85,16.25) 7(-20.85,15.75) 8(-20.85,15.25) 9(-20.85,14.75) 10(-20.85,14.25) 11(-20.85,13.75) 12(-20.85,13.25) 13(-20.85,12.75) 14(-20.85,12.25) 15(-20.85,11.75) 16(-20.85,11.25) 17(-20.85,10.75) 18(-20.85,10.25) 19(-20.85,9.75) 20(-20.85,9.25) 21(-20.85,8.75) 22(-20.85,8.25) 23(-20.85,7.75) 24(-20.85,7.25) 25(-20.85,6.75) 26(-20.85,6.25) 27(-20.85,5.75) 28(-20.85,5.25) 29(-20.85,4.75) 30(-20.85,4.25) 31(-20.85,3.75) 32(-20.85,3.25) 33(-20.85,2.75) 34(-20.85,2.25) 35(-20.85,1.75) 36(-20.85,1.25) 37(-20.85,0.75) 38(-20.85,0.25) 39(-20.85,-0.25) 40(-20.85,-0.75) 41(-20.85,-1.25) 42(-20.85,-1.75) 43(-20.85,-2.25) 44(-20.85,-2.75) 45(-20.85,-3.25) 46(-20.85,-3.75) 47(-20.85,-4.25) 48(-20.85,-4.75) 49(-20.85,-5.25) 50(-20.85,-5.75) 51(-20.85,-6.25) 52(-20.85,-6.75) 53(-20.85,-7.25) 54(-20.85,-7.75) 55(-20.85,-8.25) 56(-20.85,-8.75) 57(-20.85,-9.25) 58(-20.85,-9.75) 59(-20.85,-10.25) 60(-20.85,-10.75) 61(-20.85,-11.25) 62(-20.85,-11.75) 63(-20.85,-12.25) 64(-20.85,-12.75) 65(-20.85,-13.25) 66(-20.85,-13.75) 67(-20.85,-14.25) 68(-20.85,-14.75) 69(-20.85,-15.25) 70(-20.85,-15.75) 71(-20.85,-16.25) 72(-20.85,-16.75) 73(-20.85,-17.25) 74(-20.85,-17.75) 75(-20.85,-18.25) 76(-20.85,-18.75) 153(20.85,-18.75) 154(20.85,-18.25) 155(20.85,-17.75) 156(20.85,-17.25) 157(20.85,-16.75) 158(20.85,-16.25) 159(20.85,-15.75) 160(20.85,-15.25) 161(20.85,-14.75) 162(20.85,-14.25) 163(20.85,-13.75) 164(20.85,-13.25) 165(20.85,-12.75) 166(20.85,-12.25) 167(20.85,-11.75) 168(20.85,-11.25) 169(20.85,-10.75) 170(20.85,-10.25) 171(20.85,-9.75) 172(20.85,-9.25) 173(20.85,-8.75) 174(20.85,-8.25) 175(20.85,-7.75) 176(20.85,-7.25) 177(20.85,-6.75) 178(20.85,-6.25) 179(20.85,-5.75) 180(20.85,-5.25) 181(20.85,-4.75) 182(20.85,-4.25) 183(20.85,-3.75) 184(20.85,-3.25) 185(20.85,-2.75) 186(20.85,-2.25) 187(20.85,-1.75) 188(20.85,-1.25) 189(20.85,-0.75) 190(20.85,-0.25) 191(20.85,0.25) 192(20.85,0.75) 193(20.85,1.25) 194(20.85,1.75) 195(20.85,2.25) 196(20.85,2.75) 197(20.85,3.25) 198(20.85,3.75) 199(20.85,4.25) 200(20.85,4.75) 201(20.85,5.25) 202(20.85,5.75) 203(20.85,6.25) 204(20.85,6.75) 205(20.85,7.25) 206(20.85,7.75) 207(20.85,8.25) 208(20.85,8.75) 209(20.85,9.25) 210(20.85,9.75) 211(20.85,10.25) 212(20.85,10.75) 213(20.85,11.25) 214(20.85,11.75) 215(20.85,12.25) 216(20.85,12.75) 217(20.85,13.25) 218(20.85,13.75) 219(20.85,14.25) 220(20.85,14.75) 221(20.85,15.25) 222(20.85,15.75) 223(20.85,16.25) 224(20.85,16.75) 225(20.85,17.25) 226(20.85,17.75) 227(20.85,18.25) 228(20.85,18.75)
  oval 0.3x1.8 smd: 77(-18.75,-20.85) 78(-18.25,-20.85) 79(-17.75,-20.85) 80(-17.25,-20.85) 81(-16.75,-20.85) 82(-16.25,-20.85) 83(-15.75,-20.85) 84(-15.25,-20.85) 85(-14.75,-20.85) 86(-14.25,-20.85) 87(-13.75,-20.85) 88(-13.25,-20.85) 89(-12.75,-20.85) 90(-12.25,-20.85) 91(-11.75,-20.85) 92(-11.25,-20.85) 93(-10.75,-20.85) 94(-10.25,-20.85) 95(-9.75,-20.85) 96(-9.25,-20.85) 97(-8.75,-20.85) 98(-8.25,-20.85) 99(-7.75,-20.85) 100(-7.25,-20.85) 101(-6.75,-20.85) 102(-6.25,-20.85) 103(-5.75,-20.85) 104(-5.25,-20.85) 105(-4.75,-20.85) 106(-4.25,-20.85) 107(-3.75,-20.85) 108(-3.25,-20.85) 109(-2.75,-20.85) 110(-2.25,-20.85) 111(-1.75,-20.85) 112(-1.25,-20.85) 113(-0.75,-20.85) 114(-0.25,-20.85) 115(0.25,-20.85) 116(0.75,-20.85) 117(1.25,-20.85) 118(1.75,-20.85) 119(2.25,-20.85) 120(2.75,-20.85) 121(3.25,-20.85) 122(3.75,-20.85) 123(4.25,-20.85) 124(4.75,-20.85) 125(5.25,-20.85) 126(5.75,-20.85) 127(6.25,-20.85) 128(6.75,-20.85) 129(7.25,-20.85) 130(7.75,-20.85) 131(8.25,-20.85) 132(8.75,-20.85) 133(9.25,-20.85) 134(9.75,-20.85) 135(10.25,-20.85) 136(10.75,-20.85) 137(11.25,-20.85) 138(11.75,-20.85) 139(12.25,-20.85) 140(12.75,-20.85) 141(13.25,-20.85) 142(13.75,-20.85) 143(14.25,-20.85) 144(14.75,-20.85) 145(15.25,-20.85) 146(15.75,-20.85) 147(16.25,-20.85) 148(16.75,-20.85) 149(17.25,-20.85) 150(17.75,-20.85) 151(18.25,-20.85) 152(18.75,-20.85) 229(18.75,20.85) 230(18.25,20.85) 231(17.75,20.85) 232(17.25,20.85) 233(16.75,20.85) 234(16.25,20.85) 235(15.75,20.85) 236(15.25,20.85) 237(14.75,20.85) 238(14.25,20.85) 239(13.75,20.85) 240(13.25,20.85) 241(12.75,20.85) 242(12.25,20.85) 243(11.75,20.85) 244(11.25,20.85) 245(10.75,20.85) 246(10.25,20.85) 247(9.75,20.85) 248(9.25,20.85) 249(8.75,20.85) 250(8.25,20.85) 251(7.75,20.85) 252(7.25,20.85) 253(6.75,20.85) 254(6.25,20.85) 255(5.75,20.85) 256(5.25,20.85) 257(4.75,20.85) 258(4.25,20.85) 259(3.75,20.85) 260(3.25,20.85) 261(2.75,20.85) 262(2.25,20.85) 263(1.75,20.85) 264(1.25,20.85) 265(0.75,20.85) 266(0.25,20.85) 267(-0.25,20.85) 268(-0.75,20.85) 269(-1.25,20.85) 270(-1.75,20.85) 271(-2.25,20.85) 272(-2.75,20.85) 273(-3.25,20.85) 274(-3.75,20.85) 275(-4.25,20.85) 276(-4.75,20.85) 277(-5.25,20.85) 278(-5.75,20.85) 279(-6.25,20.85) 280(-6.75,20.85) 281(-7.25,20.85) 282(-7.75,20.85) 283(-8.25,20.85) 284(-8.75,20.85) 285(-9.25,20.85) 286(-9.75,20.85) 287(-10.25,20.85) 288(-10.75,20.85) 289(-11.25,20.85) 290(-11.75,20.85) 291(-12.25,20.85) 292(-12.75,20.85) 293(-13.25,20.85) 294(-13.75,20.85) 295(-14.25,20.85) 296(-14.75,20.85) 297(-15.25,20.85) 298(-15.75,20.85) 299(-16.25,20.85) 300(-16.75,20.85) 301(-17.25,20.85) 302(-17.75,20.85) 303(-18.25,20.85) 304(-18.75,20.85)
Top Overlay:
  circle w0.25: c-20.85,19.45 r0.125
  circle w0.6: c-18.55,18.55 r0.3
  lines w0.2: -19.55,-19.55 -19.55,19.55 19.55,19.55 19.55,-19.55 -19.55,-19.55
Mechanical 13:
  circle w0.1: c-19.1,19.1 r0.5
  lines w0.1: -20,-20 -20,20 20,20 20,-20 -20,-20
Mechanical 15:
  lines w0.1: -0.5,0 0.5,0 ; 0,-0.5 0,0.5 ; -22,-22 -22,22 22,22 22,-22 -22,-22
3D body: height 4.05, standoff 0, extent -20,-20 20,20

## EQFP144N3D [mm] "Thin QFP, 144-Leads, Body 20x20mm, Pitch 0.5mm, IPC Medium Density"
height 0.6
pads (145):
  oval 1.8x0.3 smd: 1(-10.55,8.75) 2(-10.55,8.25) 3(-10.55,7.75) 4(-10.55,7.25) 5(-10.55,6.75) 6(-10.55,6.25) 7(-10.55,5.75) 8(-10.55,5.25) 9(-10.55,4.75) 10(-10.55,4.25) 11(-10.55,3.75) 12(-10.55,3.25) 13(-10.55,2.75) 14(-10.55,2.25) 15(-10.55,1.75) 16(-10.55,1.25) 17(-10.55,0.75) 18(-10.55,0.25) 19(-10.55,-0.25) 20(-10.55,-0.75) 21(-10.55,-1.25) 22(-10.55,-1.75) 23(-10.55,-2.25) 24(-10.55,-2.75) 25(-10.55,-3.25) 26(-10.55,-3.75) 27(-10.55,-4.25) 28(-10.55,-4.75) 29(-10.55,-5.25) 30(-10.55,-5.75) 31(-10.55,-6.25) 32(-10.55,-6.75) 33(-10.55,-7.25) 34(-10.55,-7.75) 35(-10.55,-8.25) 36(-10.55,-8.75) 73(10.55,-8.75) 74(10.55,-8.25) 75(10.55,-7.75) 76(10.55,-7.25) 77(10.55,-6.75) 78(10.55,-6.25) 79(10.55,-5.75) 80(10.55,-5.25) 81(10.55,-4.75) 82(10.55,-4.25) 83(10.55,-3.75) 84(10.55,-3.25) 85(10.55,-2.75) 86(10.55,-2.25) 87(10.55,-1.75) 88(10.55,-1.25) 89(10.55,-0.75) 90(10.55,-0.25) 91(10.55,0.25) 92(10.55,0.75) 93(10.55,1.25) 94(10.55,1.75) 95(10.55,2.25) 96(10.55,2.75) 97(10.55,3.25) 98(10.55,3.75) 99(10.55,4.25) 100(10.55,4.75) 101(10.55,5.25) 102(10.55,5.75) 103(10.55,6.25) 104(10.55,6.75) 105(10.55,7.25) 106(10.55,7.75) 107(10.55,8.25) 108(10.55,8.75)
  oval 0.3x1.8 smd: 37(-8.75,-10.55) 38(-8.25,-10.55) 39(-7.75,-10.55) 40(-7.25,-10.55) 41(-6.75,-10.55) 42(-6.25,-10.55) 43(-5.75,-10.55) 44(-5.25,-10.55) 45(-4.75,-10.55) 46(-4.25,-10.55) 47(-3.75,-10.55) 48(-3.25,-10.55) 49(-2.75,-10.55) 50(-2.25,-10.55) 51(-1.75,-10.55) 52(-1.25,-10.55) 53(-0.75,-10.55) 54(-0.25,-10.55) 55(0.25,-10.55) 56(0.75,-10.55) 57(1.25,-10.55) 58(1.75,-10.55) 59(2.25,-10.55) 60(2.75,-10.55) 61(3.25,-10.55) 62(3.75,-10.55) 63(4.25,-10.55) 64(4.75,-10.55) 65(5.25,-10.55) 66(5.75,-10.55) 67(6.25,-10.55) 68(6.75,-10.55) 69(7.25,-10.55) 70(7.75,-10.55) 71(8.25,-10.55) 72(8.75,-10.55) 109(8.75,10.55) 110(8.25,10.55) 111(7.75,10.55) 112(7.25,10.55) 113(6.75,10.55) 114(6.25,10.55) 115(5.75,10.55) 116(5.25,10.55) 117(4.75,10.55) 118(4.25,10.55) 119(3.75,10.55) 120(3.25,10.55) 121(2.75,10.55) 122(2.25,10.55) 123(1.75,10.55) 124(1.25,10.55) 125(0.75,10.55) 126(0.25,10.55) 127(-0.25,10.55) 128(-0.75,10.55) 129(-1.25,10.55) 130(-1.75,10.55) 131(-2.25,10.55) 132(-2.75,10.55) 133(-3.25,10.55) 134(-3.75,10.55) 135(-4.25,10.55) 136(-4.75,10.55) 137(-5.25,10.55) 138(-5.75,10.55) 139(-6.25,10.55) 140(-6.75,10.55) 141(-7.25,10.55) 142(-7.75,10.55) 143(-8.25,10.55) 144(-8.75,10.55)
  oct 4x4 smd: 145(0,0)
Top Overlay:
  circle w0.6: c-8.25,8.25 r0.3
  circle w0.25: c-10.55,9.45 r0.125
  lines w0.2: -9.25,-9.25 9.25,-9.25 9.25,9.25 -9.25,9.25 -9.25,-9.25
Mechanical 13:
  circle w0.1: c-9.1,9.1 r0.5
  lines w0.1: -10,-10 10,-10 10,10 -10,10 -10,-10
Mechanical 15:
  lines w0.1: -0.5,0 0.5,0 ; 0,-0.5 0,0.5 ; -11.7,-11.7 11.7,-11.7 11.7,11.7 -11.7,11.7 -11.7,-11.7
3D body: height 1.6, standoff 0, extent -10,-10 10,10

## PQFP-144_L20.0-W20.0-P0.50-LS22.0-BL-EP [mm]
pads (145):
  oval 0.28x1.8 smd paste+0 mask+0.051: 1(-8.75,-10.795) 2(-8.25,-10.795) 3(-7.75,-10.795) 4(-7.25,-10.795) 5(-6.75,-10.795) 6(-6.25,-10.795) 7(-5.75,-10.795) 8(-5.25,-10.795) 9(-4.75,-10.795) 10(-4.25,-10.795) 11(-3.75,-10.795) 12(-3.25,-10.795) 13(-2.75,-10.795) 14(-2.25,-10.795) 15(-1.75,-10.795) 16(-1.25,-10.795) 17(-0.75,-10.795) 18(-0.25,-10.795) 19(0.25,-10.795) 20(0.75,-10.795) 21(1.25,-10.795) 22(1.75,-10.795) 23(2.25,-10.795) 24(2.75,-10.795) 25(3.25,-10.795) 26(3.75,-10.795) 27(4.25,-10.795) 28(4.75,-10.795) 29(5.25,-10.795) 30(5.75,-10.795) 31(6.25,-10.795) 32(6.75,-10.795) 33(7.25,-10.795) 34(7.75,-10.795) 35(8.25,-10.795) 36(8.75,-10.795) 73(8.75,10.795) 74(8.25,10.795) 75(7.75,10.795) 76(7.25,10.795) 77(6.75,10.795) 78(6.25,10.795) 79(5.75,10.795) 80(5.25,10.795) 81(4.75,10.795) 82(4.25,10.795) 83(3.75,10.795) 84(3.25,10.795) 85(2.75,10.795) 86(2.25,10.795) 87(1.75,10.795) 88(1.25,10.795) 89(0.75,10.795) 90(0.25,10.795) 91(-0.25,10.795) 92(-0.75,10.795) 93(-1.25,10.795) 94(-1.75,10.795) 95(-2.25,10.795) 96(-2.75,10.795) 97(-3.25,10.795) 98(-3.75,10.795) 99(-4.25,10.795) 100(-4.75,10.795) 101(-5.25,10.795) 102(-5.75,10.795) 103(-6.25,10.795) 104(-6.75,10.795) 105(-7.25,10.795) 106(-7.75,10.795) 107(-8.25,10.795) 108(-8.75,10.795)
  oval 1.8x0.28 smd paste+0 mask+0.051: 37(10.795,-8.75) 38(10.795,-8.25) 39(10.795,-7.75) 40(10.795,-7.25) 41(10.795,-6.75) 42(10.795,-6.25) 43(10.795,-5.75) 44(10.795,-5.25) 45(10.795,-4.75) 46(10.795,-4.25) 47(10.795,-3.75) 48(10.795,-3.25) 49(10.795,-2.75) 50(10.795,-2.25) 51(10.795,-1.75) 52(10.795,-1.25) 53(10.795,-0.75) 54(10.795,-0.25) 55(10.795,0.25) 56(10.795,0.75) 57(10.795,1.25) 58(10.795,1.75) 59(10.795,2.25) 60(10.795,2.75) 61(10.795,3.25) 62(10.795,3.75) 63(10.795,4.25) 64(10.795,4.75) 65(10.795,5.25) 66(10.795,5.75) 67(10.795,6.25) 68(10.795,6.75) 69(10.795,7.25) 70(10.795,7.75) 71(10.795,8.25) 72(10.795,8.75) 109(-10.795,8.75) 110(-10.795,8.25) 111(-10.795,7.75) 112(-10.795,7.25) 113(-10.795,6.75) 114(-10.795,6.25) 115(-10.795,5.75) 116(-10.795,5.25) 117(-10.795,4.75) 118(-10.795,4.25) 119(-10.795,3.75) 120(-10.795,3.25) 121(-10.795,2.75) 122(-10.795,2.25) 123(-10.795,1.75) 124(-10.795,1.25) 125(-10.795,0.75) 126(-10.795,0.25) 127(-10.795,-0.25) 128(-10.795,-0.75) 129(-10.795,-1.25) 130(-10.795,-1.75) 131(-10.795,-2.25) 132(-10.795,-2.75) 133(-10.795,-3.25) 134(-10.795,-3.75) 135(-10.795,-4.25) 136(-10.795,-4.75) 137(-10.795,-5.25) 138(-10.795,-5.75) 139(-10.795,-6.25) 140(-10.795,-6.75) 141(-10.795,-7.25) 142(-10.795,-7.75) 143(-10.795,-8.25) 144(-10.795,-8.75)
  rect 7x7 smd paste+0 mask+0.051: 145(0,0)
Top Overlay:
  lines w0.2: -9.25,-9.25 -9.25,9.25 9.25,9.25 9.25,-9.25 -9.25,-9.25
  lines w0.254: -10.399,-9.134 -10.399,-10.399 -9.2,-10.399 ; -10,-9.132 -10,-10 -9.107,-10 ; -10,9.107 -10,10 -9.132,10 ; 9.107,10 10,10 10,9.132 ; 9.132,-10 10,-10 10,-9.107
  lines w0.3: -9.5,-10.8 ccw(c-9.499,-10.95) -9.497,-10.8
  lines w0.6: -8.25,-7.95 ccw(c-8.247,-8.25) -8.245,-7.95
Mechanical 15:
  circle w0.6: c-8.8,-9.6 r0.3